# EAGLE library part NEO-7 (library aarf)
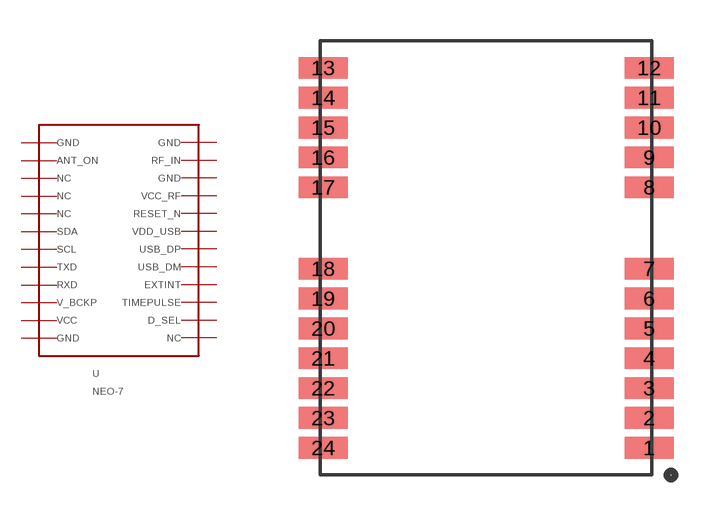
[diagram p4: symbol with the pads of NEO-7; footprint NEO-7]

Designator prefix U

## NEO-7  [NEO-7]
1  P$1
2  P$2
3  P$3
4  P$4
5  P$5
6  P$6
7  P$7
8  P$8
9  P$9
10  P$10
11  P$11
12  P$12
13  P$13
14  P$14
15  P$15
16  P$16
17  P$17
18  P$18
19  P$19
20  P$20
21  P$21
22  P$22
23  P$23
24  P$24

## Footprint NEO-7 (pad centres in mm)
smd 1.8 x 0.8: 1 5.9,-7.8; 2 5.9,-6.7; 3 5.9,-5.6; 4 5.9,-4.5; 5 5.9,-3.4; 6 5.9,-2.3; 7 5.9,-1.2; 8 5.9,1.8; 9 5.9,2.9; 10 5.9,4; 11 5.9,5.1; 12 5.9,6.2; 13 -6.1,6.2; 14 -6.1,5.1; 15 -6.1,4; 16 -6.1,2.9; 17 -6.1,1.8; 18 -6.1,-1.2; 19 -6.1,-2.3; 20 -6.1,-3.4; 21 -6.1,-4.5; 22 -6.1,-5.6; 23 -6.1,-6.7; 24 -6.1,-7.8